# Altium schematic symbol library ACM2012-900-2P-TL002.SchLib: 1 symbol
Pins are listed as number, name and electrical type; pins without a type are passive.

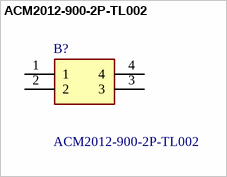
[diagram p0: symbol ACM2012-900-2P-TL002]

## ACM2012-900-2P-TL002
designator B?
Common Mode Chokes / Filters -; Manufacturer_Name: TDK; Geometry.Height: 1.3mm; Manufacturer_Part_Number: ACM2012-900-2P-TL002; Mouser Part Number: 810-ACM209002PTL002; Mouser Price/Stock: https://www.mouser.co.uk/ProductDetail/TDK/ACM2012-900-2P-TL002?qs=YdQ7Kj7W0bxxBDY3mg797A%3D%3D; Arrow Part Number: ACM2012-900-2P-TL002; Arrow Price/Stock: https://www.arrow.com/en/products/acm2012-900-2p-tl002/tdk?region=nac; Datasheet Link: https://product.tdk.com/info/en/catalog/datasheets/cmf_commercial_signal_acm2012_en.pdf?ref_disty=digikey
footprint ACM20129002PTL002
pins: 1, 2, 3, 4